# Altium schematic symbol library STM32F765ZGT6.SchLib: 1 symbol
Pins are listed as number, name and electrical type; pins without a type are passive.

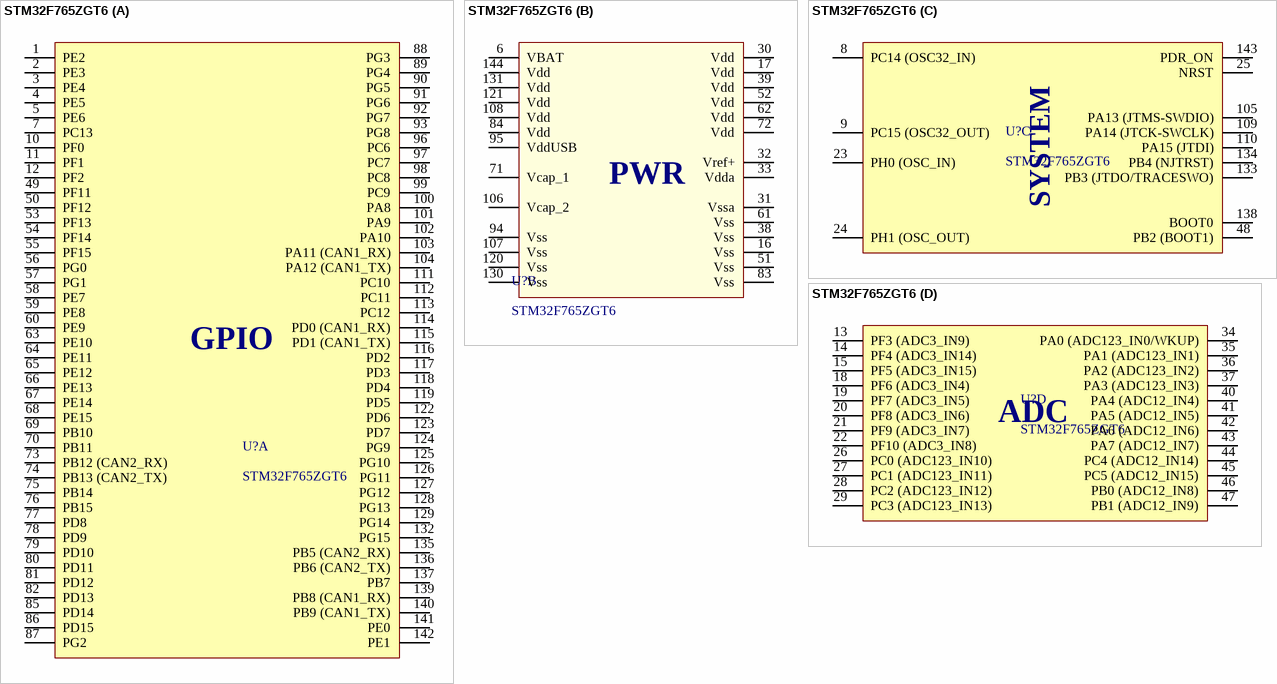
[diagram p0: symbol STM32F765ZGT6]

## STM32F765ZGT6
designator U?
part A pins: 1 PE2, 2 PE3, 3 PE4, 4 PE5, 5 PE6, 7 PC13, 10 PF0, 11 PF1, 12 PF2, 49 PF11, 50 PF12, 53 PF13, 54 PF14, 55 PF15, 56 PG0, 57 PG1, 58 PE7, 59 PE8, 60 PE9, 63 PE10, 64 PE11, 65 PE12, 66 PE13, 67 PE14, 68 PE15, 69 PB10, 70 PB11, 73 PB12 (CAN2_RX), 74 PB13 (CAN2_TX), 75 PB14, 76 PB15, 77 PD8, 78 PD9, 79 PD10, 80 PD11, 81 PD12, 82 PD13, 85 PD14, 86 PD15, 87 PG2, 88 PG3, 89 PG4, 90 PG5, 91 PG6, 92 PG7, 93 PG8, 96 PC6, 97 PC7, 98 PC8, 99 PC9, 100 PA8, 101 PA9, 102 PA10, 103 PA11 (CAN1_RX), 104 PA12 (CAN1_TX), 111 PC10, 112 PC11, 113 PC12, 114 PD0 (CAN1_RX), 115 PD1 (CAN1_TX), 116 PD2, 117 PD3, 118 PD4, 119 PD5, 122 PD6, 123 PD7, 124 PG9, 125 PG10, 126 PG11, 127 PG12, 128 PG13, 129 PG14, 132 PG15, 135 PB5 (CAN2_RX), 136 PB6 (CAN2_TX), 137 PB7, 139 PB8 (CAN1_RX), 140 PB9 (CAN1_TX), 141 PE0, 142 PE1
part B pins: 6 VBAT, 16 Vss, 17 Vdd, 30 Vdd, 31 Vssa, 32 Vref+, 33 Vdda, 38 Vss, 39 Vdd, 51 Vss, 52 Vdd, 61 Vss, 62 Vdd, 71 Vcap_1, 72 Vdd, 83 Vss, 84 Vdd, 94 Vss, 95 VddUSB, 106 Vcap_2, 107 Vss, 108 Vdd, 120 Vss, 121 Vdd, 130 Vss, 131 Vdd, 144 Vdd
part C pins: 8 PC14 (OSC32_IN), 9 PC15 (OSC32_OUT), 23 PH0 (OSC_IN), 24 PH1 (OSC_OUT), 25 NRST, 48 PB2 (BOOT1), 105 PA13 (JTMS-SWDIO), 109 PA14 (JTCK-SWCLK), 110 PA15 (JTDI), 133 PB3 (JTDO/TRACESWO), 134 PB4 (NJTRST), 138 BOOT0, 143 PDR_ON
part D pins: 13 PF3 (ADC3_IN9), 14 PF4 (ADC3_IN14), 15 PF5 (ADC3_IN15), 18 PF6 (ADC3_IN4), 19 PF7 (ADC3_IN5), 20 PF8 (ADC3_IN6), 21 PF9 (ADC3_IN7), 22 PF10 (ADC3_IN8), 26 PC0 (ADC123_IN10), 27 PC1 (ADC123_IN11), 28 PC2 (ADC123_IN12), 29 PC3 (ADC123_IN13), 34 PA0 (ADC123_IN0/WKUP), 35 PA1 (ADC123_IN1), 36 PA2 (ADC123_IN2), 37 PA3 (ADC123_IN3), 40 PA4 (ADC12_IN4), 41 PA5 (ADC12_IN5), 42 PA6 (ADC12_IN6), 43 PA7 (ADC12_IN7), 44 PC4 (ADC12_IN14), 45 PC5 (ADC12_IN15), 46 PB0 (ADC12_IN8), 47 PB1 (ADC12_IN9)
part A text: GPIO
part B text: PWR
part C text: SYSTEM
part D text: ADC